# EAGLE library part MCP2551 (library @Club_Microchip_divers-)
High-Speed CAN Transceiver
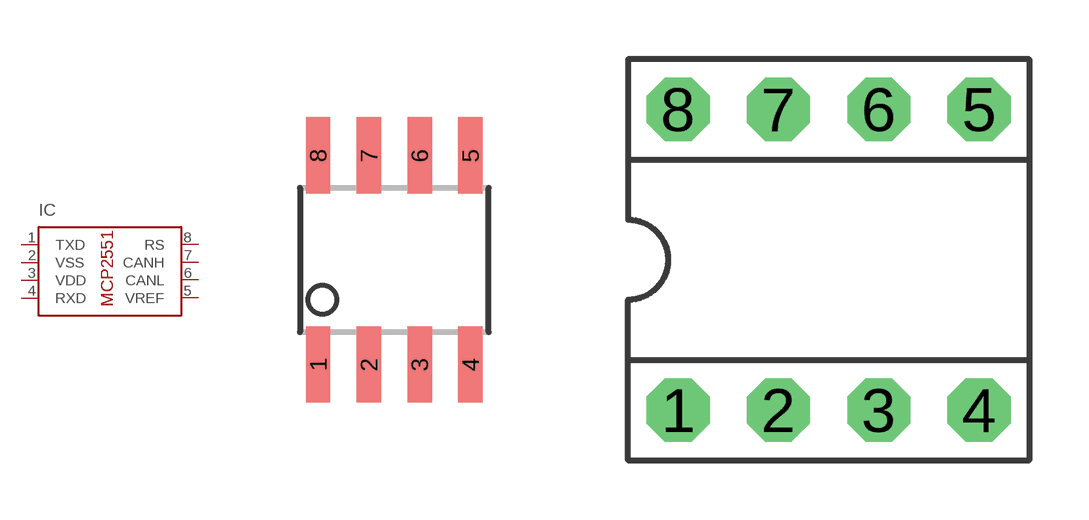
[diagram p1: symbol with the pads of SO08; footprints SO08, DIL08]

Designator prefix IC

## MCP2551/SN  [SO08]
1  TXD  in
2  VSS  pwr
3  VDD  pwr
4  RXD  out
5  VREF  out
6  CANL
7  CANH
8  RS  in

## MCP2551/P  [DIL08]
Pads as for SO08

## Footprint SO08 (pad centres in mm)
Small Outline Package
smd 0.61 x 1.905: 1 -1.905,-2.616; 2 -0.635,-2.616; 3 0.635,-2.616; 4 1.905,-2.616; 5 1.905,2.616; 6 0.635,2.616; 7 -0.635,2.616; 8 -1.905,2.616

## Footprint DIL08 (pad centres in mm)
Dual In Line
drill 0.813 pad 1.6 octagon: 1 -3.81,-3.81; 2 -1.27,-3.81; 3 1.27,-3.81; 4 3.81,-3.81; 5 3.81,3.81; 6 1.27,3.81; 7 -1.27,3.81; 8 -3.81,3.81